# Altium schematic symbol library IC-Schematics.SchLib: 7 symbols
Pins are listed as number, name and electrical type; pins without a type are passive.

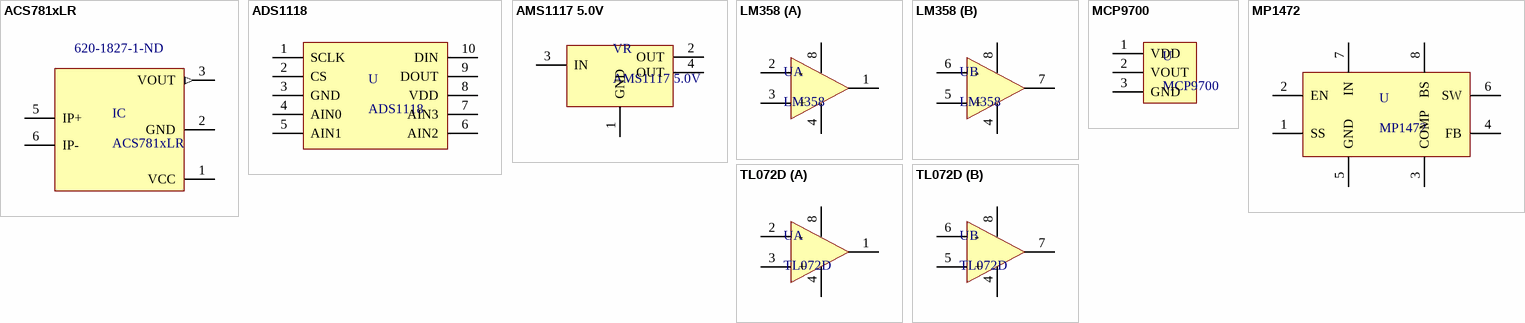
[diagram p0: symbols ACS781xLR to TL072D]

## ACS781xLR
designator IC  Supplier Part Number 1: 620-1827-1-ND
THERMALLY ENHANCED CURRENT SENSO; Supplier 1: Digi-Key
pins: 1 VCC (power), 2 GND (power), 3 VOUT (out), 5 IP+ (power), 6 IP- (power)

## ADS1118
designator U
ADS1118 SPI 4 Channel ADC
footprint Model Name (Footprint not found)
pins: 1 SCLK, 2 CS, 3 GND, 4 AIN0, 5 AIN1, 6 AIN2, 7 AIN3, 8 VDD, 9 DOUT, 10 DIN

## AMS1117 5.0V
designator VR
AMS1117 5.0V Linear Regulator
footprint SOT223 (Package)
pins: 1 GND, 2 OUT, 3 IN, 4 OUT

## LM358
designator U
LM358 OPAMP
footprint SOIC-8 (SOIC-8 Package)
part A pins: 1 OUT, 2 -, 3 +, 4 VCC-, 8 VCC+
part B pins: 4 VCC-, 5 +, 6 -, 7 OUT, 8 VCC+

## MCP9700
designator U
MCP9700 Linear Temperature Sensor
footprint SOT23-3 (TO-236AB) (SOT23 3 Pin)
pins: 1 VDD, 2 VOUT, 3 GND

## MP1472
designator U
MP1472 2A 18V Step-Down Conventor
pins: 1 SS, 2 EN, 3 COMP, 4 FB, 5 GND, 6 SW, 7 IN, 8 BS

## TL072D
designator U
TL072D Dual Low Noise OPAMP
footprint SOIC-8 (SOIC-8 Pin)
part A pins: 1 OUT, 2 -, 3 +, 4 VCC-, 8 VCC+
part B pins: 4 VCC-, 5 +, 6 -, 7 OUT, 8 VCC+